# EAGLE library part SATA0010225X (library BW-Connectors)
SATA 15+7 pin male connector
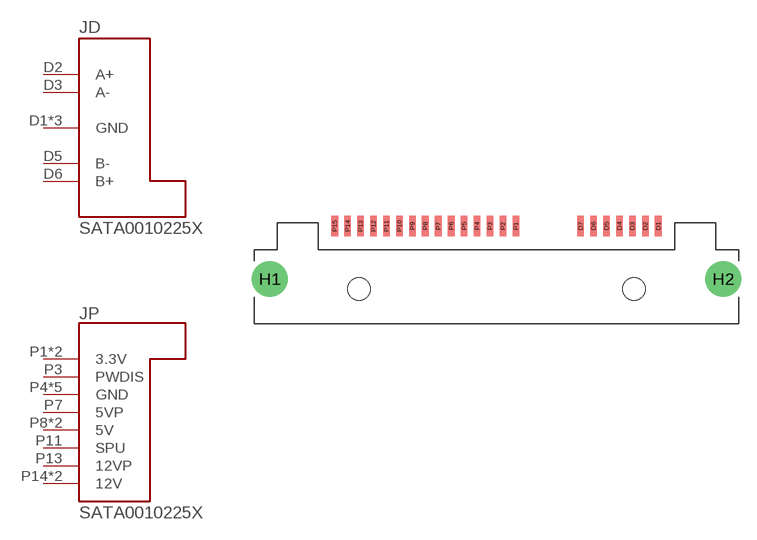
[diagram p0: symbol with the pads of SATA0010225X; footprint SATA0010225X]

Designator prefix J; gates D=SATA-DATA P=SATA-POWER

## SATA0010225X  [SATA0010225X]
D1  D:GND
D2  D:A+
D3  D:A-
D4  D:GND
D5  D:B-
D6  D:B+
D7  D:GND
P1  P:3.3V
P2  P:3.3V
P3  P:PWDIS
P4  P:GND
P5  P:GND
P6  P:GND
P7  P:5VP
P8  P:5V
P9  P:5V
P10  P:GND
P11  P:SPU
P12  P:GND
P13  P:12VP
P14  P:12V
P15  P:12V

## Footprint SATA0010225X (pad centres in mm)
smd 0.65 x 2: D1 15.875,9.6; D2 14.605,9.6; D3 13.335,9.6; D4 12.065,9.6; D5 10.795,9.6; D6 9.525,9.6; D7 8.255,9.6; P1 1.905,9.6; P2 0.635,9.6; P3 -0.635,9.6; P4 -1.905,9.6; P5 -3.175,9.6; P6 -4.445,9.6; P7 -5.715,9.6; P8 -6.985,9.6; P9 -8.255,9.6; P10 -9.525,9.6; P11 -10.795,9.6; P12 -12.065,9.6; P13 -13.335,9.6; P14 -14.605,9.6; P15 -15.875,9.6
drill 2.5: H1 -22.25,4.4; H2 22.25,4.4
hole 2.2 at -13.5,3.4
hole 2.2 at 13.5,3.4